# EAGLE library part 615108137421R (library WR-MJ)
WR-MJ Cat 3 Modular Jacks – THR Characteristics Shieldingless and Shielded with EMI-Spring option Optional LEDs in various sequences Vertical and Horizontal orientation Stacked and assembled configurations Tape & Reel packaging for pick-and-place assembly (Tray for larger stacks) Properties PoE++ Compatible up to 100W (IEEE 802.3bt) UL and cULus-Certified UL94-V0 reflow-compatible insulator material Ethernet Category 3 – Category 5 under conditions Applications Networks Internet of Things Smart Buildings <https://www.we-online.com/components/media/o863340v209%20Multi-WR-MJTH-615108137421R.jpg> Details see: www.we-online.com/en/components/products/WR_MJ_MODULAR_JACKS_THR <www.we-online.com/catalog/WR_MJ_MODULAR_JACKS_THR/?utm_source=eagle_model&utm_medium=description_link&utm_campaign=eisos_eagle> Updated by Yingchun Shan 2020-01-03 2020(C) Würth Elektronik
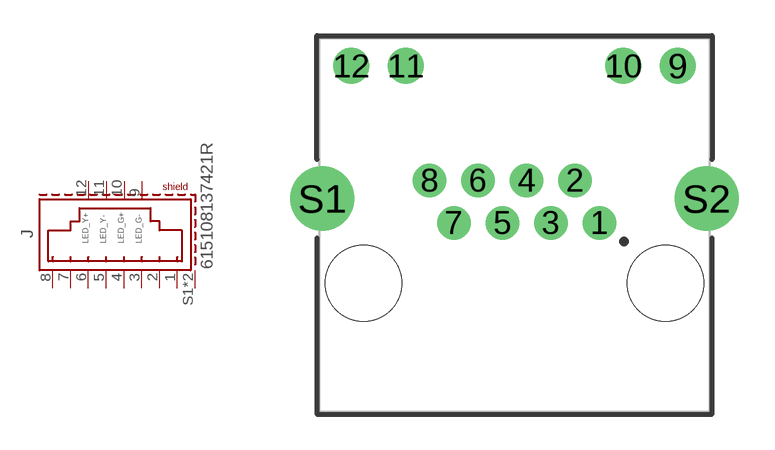
[diagram p66: symbol with the pads of 615108137421R; footprint 615108137421R]

Designator prefix J

## 615108137421R (APPLICATION-SYSTEM: CAT 3; DATASHEET-URL: https://www.we-online.com/redexpert/spec/615108137421R?ae; EMI: Yes; LED: yellow-green; MOUNT: THR; PART-NUMBER: 615108137421R; SIZE: Horizontal; TAB: Up; VALUE: 615108137421R; XPXC: 8P8C)  [615108137421R]
1  1  pas
2  2  pas
3  3  pas
4  4  pas
5  5  pas
6  6  pas
7  7  pas
8  8  pas
9  G-  pas
10  G+  pas
11  Y-  pas
12  Y+  pas
S1  SHIELD  pas
S2  SHIELD  pas

## Footprint 615108137421R (pad centres in mm)
WR-MJ Modular Jack THR Horizontal Shielded w. LED and EMI Finger 8P8C Tab Up
drill 0.9: 1 3.57,0.09; 2 2.55,1.87; 3 1.53,0.09; 4 0.51,1.87; 5 -0.51,0.09; 6 -1.53,1.87; 7 -2.55,0.09; 8 -3.57,1.87
drill 1: 9 6.86,6.68; 10 4.57,6.68; 11 -4.57,6.68; 12 -6.86,6.68
drill 1.8: S1 -8.075,1.11; S2 8.075,1.11
hole 3.2 at -6.35,-2.45
hole 3.2 at 6.35,-2.45